# EAGLE library part AOZ6662DI (library radio-tracker)
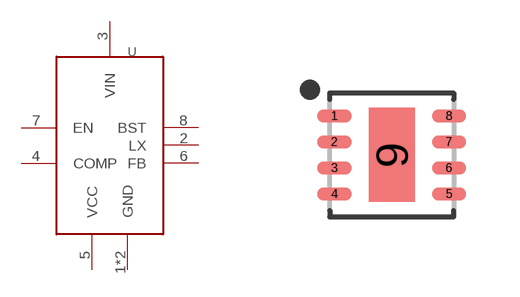
[diagram p2: symbol with the pads of AOZ6662DI; footprint AOZ6662DI]

Designator prefix U

## AOZ6662DI  [AOZ6662DI]
1  GND  pas
2  LX  out
3  VIN  pwr
4  COMP  pas
5  VCC  pas
6  FB  in
7  EN  in
8  BST  pas
9  GND  pas

## Footprint AOZ6662DI (pad centres in mm)
8-SON (DFN), 0.65 mm pitch, 3.00 X 3.00 X 0.90 mm body, 2.35 X 1.15 mm thermal pad 8-pin SON (DFN) package with 0.65 mm pitch with body size 3.00 X 3.00 X 0.90 mm and thermal pad size 2.35 X 1.15 mm
smd 0.86 x 0.317: 1 -1.435,0.975; 2 -1.435,0.325; 3 -1.435,-0.325; 4 -1.435,-0.975; 5 1.435,-0.975; 6 1.435,-0.325; 7 1.435,0.325; 8 1.435,0.975
smd 1.15 x 2.35: 9 0,0